# Altium footprint library PcbLib1.PcbLib: 7 footprints
Each footprint in its own frame and in the unit in brackets; x right, y up, seen from the top. Pads: shape width x height; smd on the part's side, far side on the other; paste and mask are expansions set on the pad; w line width, h text height; cw(c..) or ccw(c..) is an arc to the next point about the centre after c.
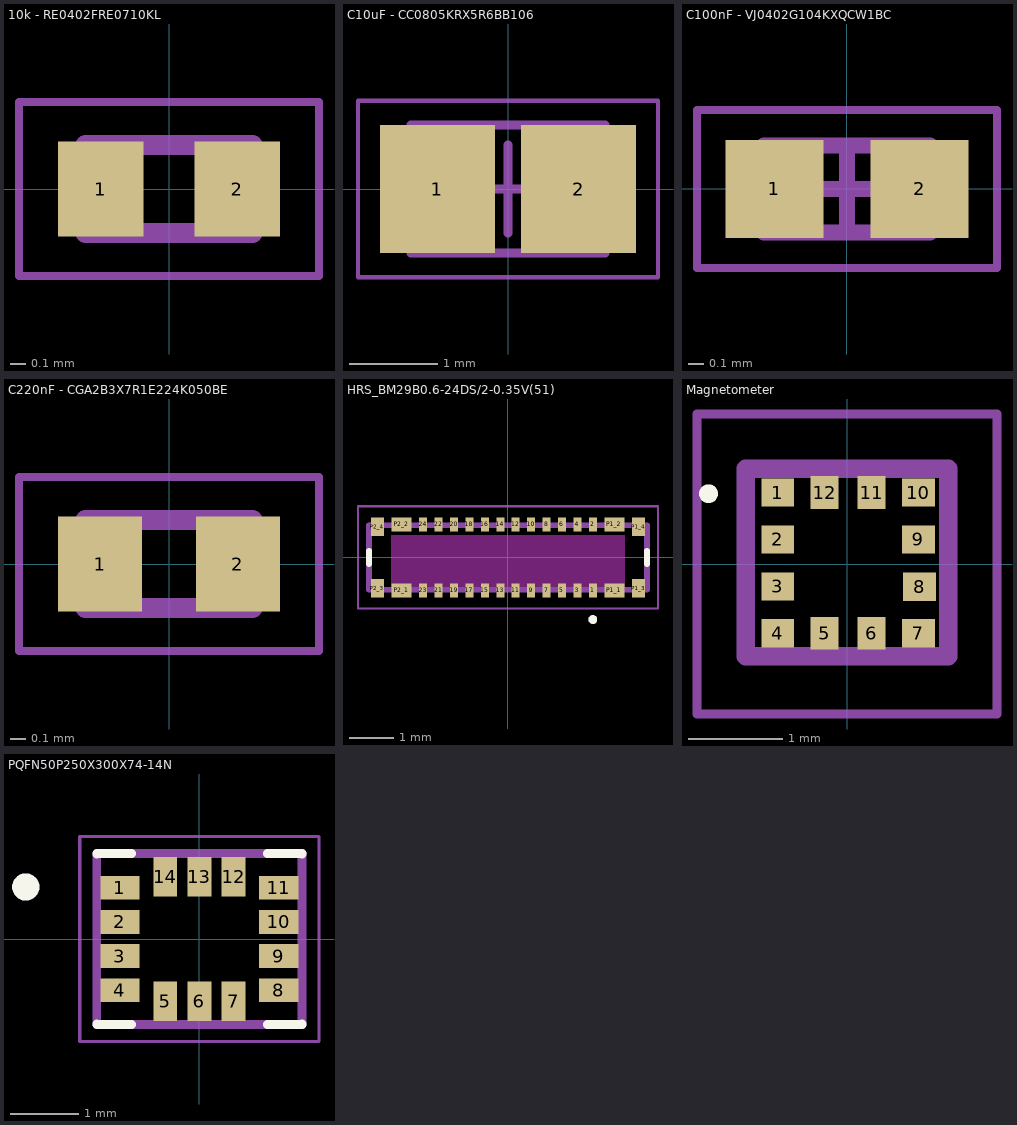
[diagram p0: the footprints below, top view; thin cyan lines are the x and y axes]

## 10k - RE0402FRE0710KL [mm]
pads (2):
  rect 0.54x0.6 smd paste+0 mask+0.102: 1(-0.432,0) 2(0.432,0)
Top Assembly:
  lines w0.05: -0.95,-0.55 -0.95,0.55 0.95,0.55 0.95,-0.55 -0.95,-0.55
Top Courtyard:
  lines w0.127: -0.53,-0.28 0.53,-0.28 0.53,0.28 -0.53,0.28 -0.53,-0.28
Top Designator:
  text ".Designator" at -1.88,-0.102 h0.38
3D body "step_temp.STEP": height 0.37, standoff 0, extent -0.5,-0.25 0.5,0.25

## C10uF - CC0805KRX5R6BB106 [mm] "Chip Capacitor, 2-Leads, Body 2,00x1,25mm, IPC Medium Density"
height 0.95
pads (2):
  rect 1.3x1.45 smd: 1(-0.8,0) 2(0.8,0)
Top Assembly:
  lines w0.1: -1.1,-0.725 -1.1,0.725 1.1,0.725 1.1,-0.725 -1.1,-0.725
Top Courtyard:
  lines w0.05: -1.7,-1 -1.7,1 1.7,1 1.7,-1 -1.7,-1
  lines w0.1: -0.5,0 0.5,0 ; 0,-0.5 0,0.5
Top Designator:
  text ".Designator" at -4.98,-0.329 h1
3D body: height 0.95, standoff 0, extent -0.6,-0.725 0.6,0.725
3D body: height 0.95, standoff 0, extent -1.1,-0.725 -0.6,0.725
3D body: height 0.95, standoff 0, extent 0.6,-0.725 1.1,0.725

## C100nF - VJ0402G104KXQCW1BC [mm] "Chip Capacitor, 2-Leads, Body 1,00x0,50mm, IPC Medium Density"
height 0.55
pads (2):
  rect 0.62x0.62 smd: 1(-0.46,0) 2(0.46,0)
Top Assembly:
  lines w0.1: -0.525,-0.275 -0.525,0.275 0.525,0.275 0.525,-0.275 -0.525,-0.275
Top Courtyard:
  lines w0.05: -0.95,-0.5 -0.95,0.5 0.95,0.5 0.95,-0.5 -0.95,-0.5
  lines w0.1: -0.275,0 0.275,0 ; 0,-0.275 0,0.275
Top Designator:
  text ".Designator" at -5.107,-0.329 h1
3D body: height 0.55, standoff 0, extent -0.275,-0.275 0.275,0.275
3D body: height 0.55, standoff 0, extent -0.525,-0.275 -0.275,0.275
3D body: height 0.55, standoff 0, extent 0.275,-0.275 0.525,0.275

## C220nF - CGA2B3X7R1E224K050BE [mm]
pads (2):
  rect 0.53x0.6 smd: 1(-0.437,0) 2(0.437,0)
Top Assembly:
  lines w0.127: -0.53,-0.28 0.53,-0.28 0.53,0.28 -0.53,0.28 -0.53,-0.28
Top Courtyard:
  lines w0.05: -0.95,-0.55 -0.95,0.55 0.95,0.55 0.95,-0.55 -0.95,-0.55
Top Designator:
  text ".Designator" at -1.982,-0.071 h0.4
3D body "step_temp.STEP": height 0.6, standoff 0, extent -0.5,-0.25 0.5,0.25

## HRS_BM29B0.6-24DS/2-0.35V(51) [mm]
pads (32):
  rect 0.18x0.32 smd paste+0 mask+0.05: 1(1.925,-0.75) 2(1.925,0.75) 3(1.575,-0.75) 4(1.575,0.75) 5(1.225,-0.75) 6(1.225,0.75) 7(0.875,-0.75) 8(0.875,0.75) 9(0.525,-0.75) 10(0.525,0.75) 11(0.175,-0.75) 12(0.175,0.75) 13(-0.175,-0.75) 14(-0.175,0.75) 15(-0.525,-0.75) 16(-0.525,0.75) 17(-0.875,-0.75) 18(-0.875,0.75) 19(-1.225,-0.75) 20(-1.225,0.75) 21(-1.575,-0.75) 22(-1.575,0.75) 23(-1.925,-0.75) 24(-1.925,0.75)
  rect 0.46x0.32 smd paste+0 mask+0.05: P1_1(2.415,-0.75) P1_2(2.415,0.75) P2_1(-2.415,-0.75) P2_2(-2.415,0.75)
  rect 0.3x0.42 smd paste+0 mask+0.102: P1_3(2.965,-0.7) P1_4(2.965,0.7) P2_3(-2.965,-0.7) P2_4(-2.965,0.7)
Top Overlay:
  circle w0.1: c1.925,-1.41 r0.05
  lines w0.127: -3.155,-0.15 -3.155,0.15 ; 3.155,-0.15 3.155,0.15
Keep-Out Layer:
  region: 2.645,-0.672 -2.645,-0.672 -2.645,0.508 2.645,0.508
Top Assembly:
  circle w0.1: c1.925,-1.41 r0.05
  lines w0.127: -3.155,-0.73 -3.155,0.73 3.155,0.73 3.155,-0.73 -3.155,-0.73
Top Courtyard:
  lines w0.05: -3.405,-1.16 3.405,-1.16 3.405,1.16 -3.405,1.16 -3.405,-1.16
Top Designator:
  text ".Designator" at -7.618,-0.67 h1.52
3D body "step_temp.STEP": height 0.57, standoff -0.03, extent -3.15,-0.75 3.16,0.75

## Magnetometer [mm]
pads (12):
  rect 0.35x0.3 smd: 1(-0.738,0.762) 2(-0.738,0.262) 3(-0.738,-0.238) 4(-0.738,-0.738) 7(0.762,-0.738) 8(0.774,-0.242) 9(0.762,0.262) 10(0.762,0.762)
  rect 0.3x0.35 smd: 5(-0.238,-0.738) 6(0.262,-0.738) 11(0.262,0.762) 12(-0.238,0.762)
Top Overlay:
  lines w0.1: -1.527,0.75 ccw(c-1.477,0.75) -1.427,0.75 ccw(c-1.477,0.75) -1.527,0.75
Top Assembly:
  lines w0.2: -1.079,-0.984 1.079,-0.984 1.079,1.016 -1.079,1.016 -1.079,-0.984
Top Courtyard:
  lines w0.1: -1.6,-1.6 1.6,-1.6 1.6,1.6 -1.6,1.6 -1.6,-1.6
Top Designator:
  text ".Designator" at -8.38,-0.381 h1.52
3D body "step_temp.STEP": height 0.7, standoff 0, extent -1,-1 1,1

## PQFN50P250X300X74-14N [mm]
height 0.74
pads (14):
  rect 0.575x0.35 smd paste-1 mask+0.05: 1(-1.162,0.75) 2(-1.162,0.25) 3(-1.162,-0.25) 4(-1.162,-0.75) 8(1.162,-0.75) 9(1.162,-0.25) 10(1.162,0.25) 11(1.162,0.75)
  rect 0.35x0.575 smd paste-1 mask+0.05: 5(-0.5,-0.913) 6(0,-0.913) 7(0.5,-0.913) 12(0.5,0.913) 13(0,0.913) 14(-0.5,0.913)
Top Overlay:
  circle w0.2: c-2.54,0.762 r0.1
  lines w0.127: -1.5,-1.245 -1.5,-1.25 -0.995,-1.25 ; -1.5,1.245 -1.5,1.25 -0.995,1.25 ; 0.995,-1.25 1.5,-1.25 1.5,-1.245 ; 0.995,1.25 1.5,1.25 1.5,1.245
Top Paste:
  region: -0.933,0.61 -1.392,0.61 -1.392,0.89 -0.933,0.89
  region: -0.933,0.11 -1.392,0.11 -1.392,0.39 -0.933,0.39
  region: -0.933,-0.39 -1.392,-0.39 -1.392,-0.11 -0.933,-0.11
  region: -0.933,-0.89 -1.392,-0.89 -1.392,-0.61 -0.933,-0.61
  region: -0.36,-1.142 -0.64,-1.142 -0.64,-0.683 -0.36,-0.683
  region: 0.64,-1.142 0.36,-1.142 0.36,-0.683 0.64,-0.683
  region: 1.392,-0.89 0.933,-0.89 0.933,-0.61 1.392,-0.61
  region: 1.392,-0.39 0.933,-0.39 0.933,-0.11 1.392,-0.11
  region: 1.392,0.11 0.933,0.11 0.933,0.39 1.392,0.39
  region: 1.392,0.61 0.933,0.61 0.933,0.89 1.392,0.89
  region: 0.64,0.683 0.36,0.683 0.36,1.142 0.64,1.142
  region: -0.36,0.683 -0.64,0.683 -0.64,1.142 -0.36,1.142
  region: 0.14,-1.142 -0.14,-1.142 -0.14,-0.683 0.14,-0.683
  region: 0.14,0.683 -0.14,0.683 -0.14,1.142 0.14,1.142
Top Assembly:
  lines w0.127: -1.5,-1.25 1.5,-1.25 1.5,1.25 -1.5,1.25 -1.5,-1.25
Top Courtyard:
  lines w0.05: -1.75,-1.5 1.75,-1.5 1.75,1.5 -1.75,1.5 -1.75,-1.5
Top Designator:
  text ".Designator" at -1.88,-0.102 h0.38
3D body "step_temp.STEP": height 0.74, standoff 0, extent -1.5,-1.25 1.5,1.25